# Altium footprint library ABRA-ASH7K-4_V.PcbLib: 1 footprints
Each footprint in its own frame and in the unit in brackets; x right, y up, seen from the top. Pads: shape width x height; smd on the part's side, far side on the other; paste and mask are expansions set on the pad; w line width, h text height; cw(c..) or ccw(c..) is an arc to the next point about the centre after c.
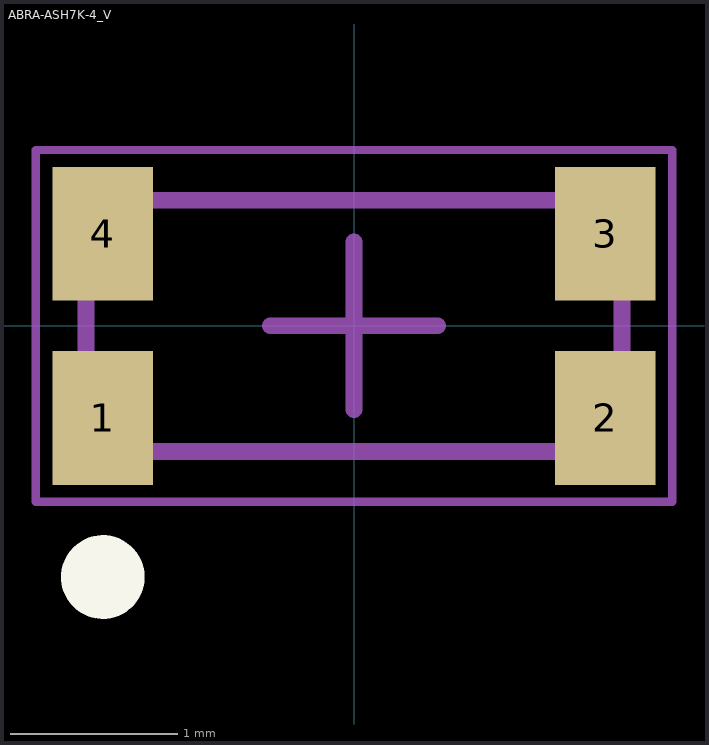
[diagram p0: the footprint, top view; thin cyan lines are the x and y axes]

## ABRA-ASH7K-4_V [mm] "Hand Drawn, 4-Leads, Body 3.2x1.5mm"
height 1
pads (4):
  rect 0.6x0.8 smd: 1(-1.5,-0.55) 2(1.5,-0.55) 3(1.5,0.55) 4(-1.5,0.55)
Top Overlay:
  circle w0.25: c-1.5,-1.5 r0.125
Mechanical 13:
  lines w0.1: -1.6,-0.75 -1.6,0.75 1.6,0.75 1.6,-0.75 -1.6,-0.75
Mechanical 15:
  lines w0.05: -1.9,-1.05 -1.9,1.05 1.9,1.05 1.9,-1.05 -1.9,-1.05
  lines w0.1: -0.5,0 0.5,0 ; 0,-0.5 0,0.5
3D body: height 1, standoff 0, extent -1.6,-0.75 1.6,0.75